# Altium schematic symbol library SHARP-LH28F008SCHN-TF.schlib: 1 symbol
Pins are listed as number, name and electrical type; pins without a type are passive.

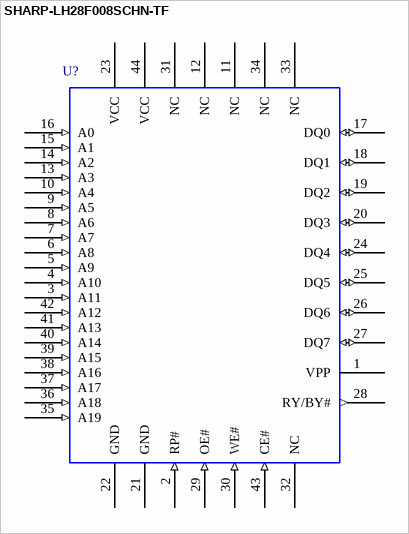
[diagram p0: symbol SHARP-LH28F008SCHN-TF]

## SHARP-LH28F008SCHN-TF
designator U?  (value not drawn)
Flash Memory 8Mbit (1Mbitx8); CircuitryPartsPN: SHARP-LH28F008SCHN-TF; ManufacturerPN: LH28F008SCHN-TF; Manufacturer: Sharp Microelectronics; CategoryI: Integrated Circuits (ICs); SchematicRev: A; DesignedBy: Circuitry Parts; MfgURL: http://www.sharpsma.com/; PackageName: PSOP44; FootprintName: *; CategoryII: Memory; Value: *; DesignedOn: 7/19/2005 11:03:48 AM
pins: 1 VPP (power), 2 RP# (in), 3 A11 (in), 4 A10 (in), 5 A9 (in), 6 A8 (in), 7 A7 (in), 8 A6 (in), 9 A5 (in), 10 A4 (in), 11 NC, 12 NC, 13 A3 (in), 14 A2 (in), 15 A1 (in), 16 A0 (in), 17 DQ0 (io), 18 DQ1 (io), 19 DQ2 (io), 20 DQ3 (io), 21 GND (power), 22 GND (power), 23 VCC (power), 24 DQ4 (io), 25 DQ5 (io), 26 DQ6 (io), 27 DQ7 (io), 28 RY/BY# (out), 29 OE# (in), 30 WE# (in), 31 NC, 32 NC, 33 NC, 34 NC, 35 A19 (in), 36 A18 (in), 37 A17 (in), 38 A16 (in), 39 A15 (in), 40 A14 (in), 41 A13 (in), 42 A12 (in), 43 CE# (in), 44 VCC (power)